# Altium schematic symbol library ANT_Miner_CtrlBoard_V1.1.SCHLIB: 22 symbols
Pins are listed as number, name and electrical type; pins without a type are passive.

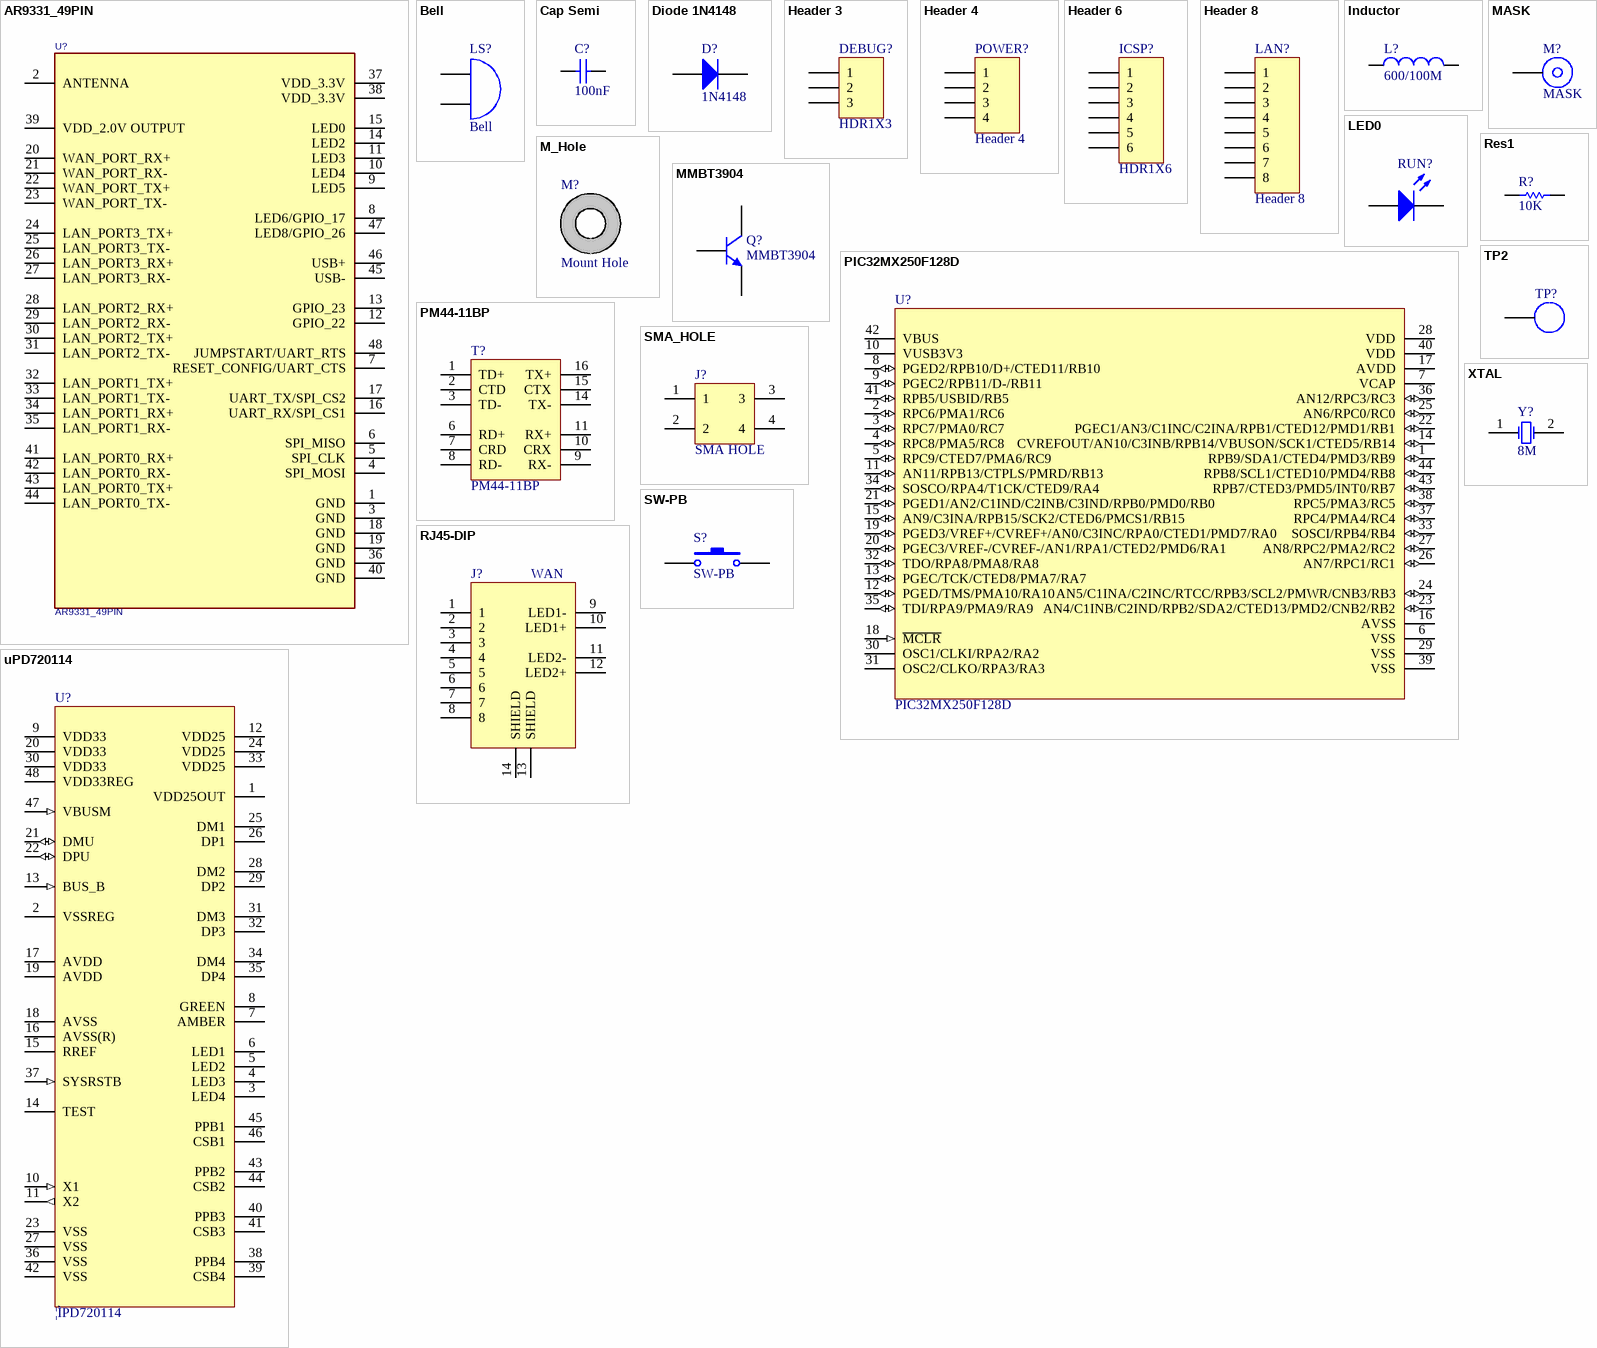
[diagram p0: symbols AR9331_49PIN to XTAL]

## AR9331_49PIN
designator U?
footprint AR9331_49PIN (AR9331 49PIN)
pins: 1 GND, 2 ANTENNA, 3 GND, 4 SPI_MOSI, 5 SPI_CLK, 6 SPI_MISO, 7 RESET_CONFIG/UART_CTS, 8 LED6/GPIO_17, 9 LED5, 10 LED4, 11 LED3, 12 GPIO_22, 13 GPIO_23, 14 LED2, 15 LED0, 16 UART_RX/SPI_CS1, 17 UART_TX/SPI_CS2, 18 GND, 19 GND, 20 WAN_PORT_RX+, 21 WAN_PORT_RX-, 22 WAN_PORT_TX+, 23 WAN_PORT_TX-, 24 LAN_PORT3_TX+, 25 LAN_PORT3_TX-, 26 LAN_PORT3_RX+, 27 LAN_PORT3_RX-, 28 LAN_PORT2_RX+, 29 LAN_PORT2_RX-, 30 LAN_PORT2_TX+, 31 LAN_PORT2_TX-, 32 LAN_PORT1_TX+, 33 LAN_PORT1_TX-, 34 LAN_PORT1_RX+, 35 LAN_PORT1_RX-, 36 GND, 37 VDD_3.3V, 38 VDD_3.3V, 39 VDD_2.0V OUTPUT, 40 GND, 41 LAN_PORT0_RX+, 42 LAN_PORT0_RX-, 43 LAN_PORT0_TX+, 44 LAN_PORT0_TX-, 45 USB-, 46 USB+, 47 LED8/GPIO_26, 48 JUMPSTART/UART_RTS
2 alternate drawings of the same symbol

## Bell
designator LS?
Electrical Bell; Published: 24-Mar-1999; LatestRevisionDate: 17-Jul-2002; LatestRevisionNote: Re-released for DXP Platform.; PackageReference: PIN2; Publisher: Altium Limited
footprint YR5025A
pins: 1 A, 2 B

## Cap Semi
designator C?, comment 100nF
Capacitor (Semiconductor SIM Model); Published: 8-Jun-2000; LatestRevisionDate: 29-May-2009; LatestRevisionNote: IPC-7351 Footprint Added.; PackageReference: C1206; Publisher: Altium Limited; PackageDescription: Chip Capacitor; Value: 100nF
footprint CC0603(1608) (Chip Capacitor, Body 1.6x0.8mm, IPC High Density)
pins: 1, 2

## Diode 1N4148
designator D?, comment 1N4148
High Conductance Fast Diode; Published: 8-Jun-2000; LatestRevisionDate: 17-Jul-2002; LatestRevisionNote: Re-released for DXP Platform.; DatasheetVersion: 1997; PackageReference: DO-35; Publisher: Altium Limited; PackageDescription: Diode, Axial; Body 3.8 x 1.9 mm (LxDia. max), Lead Dia. 0.53 mm (max); Code_JEDEC: DO-204-AH; ComponentLink1Description: Manufacturer Link; ComponentLink1URL: http://www.fairchildsemi.com/; ComponentLink2Description: Datasheet; ComponentLink2URL: http://www.fairchildsemi.com/ds/1N%2F1N4148.pdf
signal-integrity model 1N4148
footprint DIODE0805
pins: 1 A, 2 K

## Header 3
designator DEBUG?, comment HDR1X3
Header, 3-Pin; LatestRevisionDate: 17-Jul-2002; LatestRevisionNote: Re-released for DXP Platform.; Publisher: Altium Limited
signal-integrity model Connector
footprint HDR1X3 (Connector; Header; 3 Position)
pins: 1, 2, 3

## Header 4
designator POWER?
Header, 4-Pin; LatestRevisionDate: 17-Jul-2002; LatestRevisionNote: Re-released for DXP Platform.; Publisher: Altium Limited
signal-integrity model Connector
footprint 4PIN_180
pins: 1, 2, 3, 4

## Header 6
designator ICSP?, comment HDR1X6
Header, 6-Pin; LatestRevisionDate: 17-Jul-2002; LatestRevisionNote: Re-released for DXP Platform.; Publisher: Altium Limited
signal-integrity model Connector
footprint HDR1X6 (Connector; Header; 6 Position)
pins: 1, 2, 3, 4, 5, 6

## Header 8
designator LAN?
Header, 8-Pin; LatestRevisionDate: 17-Jul-2002; LatestRevisionNote: Re-released for DXP Platform.; Publisher: Altium Limited
signal-integrity model Connector
footprint 8PIN_180
pins: 1, 2, 3, 4, 5, 6, 7, 8

## Inductor
designator L?, comment 600/100M
Inductor; Code_IEC: 1005; Published: 8-Jun-2000; LatestRevisionDate: 29-May-2009; LatestRevisionNote: IPC-7351 Footprint Added.; PackageReference: 0402-A; Publisher: Altium Limited; PackageDescription: Chip Inductor; Code_JEITA: 0402; Value: 600/100M
simulation model INDUCTOR (Inductor)
signal-integrity model Inductor
footprint INDC1608L (Chip Inductor, Body 1.6x0.8mm, IPC High Density)
pins: 1, 2

## LED0
designator RUN?, comment Green  (value not drawn)
Typical INFRARED GaAs LED; Published: 8-Jun-2000; LatestRevisionDate: 08-Jul-2005; LatestRevisionNote: Mech Layer 1 removed.; PackageReference: LED-0; Publisher: Altium Limited; PackageDescription: LED; 2 Leads; value: Green
simulation model LED0 (Diode)
footprint LED0603(1608) (Chip LED, Body 1.6x0.8mm, IPC High Density)
pins: 1 A, 2 K

## M_Hole
designator M?, comment Mount Hole
footprint HOLE_3.2
pins: 0 PIN (power)

## MASK
designator M?
footprint MASK (SMD MASK 1mm)
pins: 1

## MMBT3904
designator Q?
NPN Switching Transistor; Published: 17-Sep-2003; LatestRevisionDate: 12-Dec-2006; LatestRevisionNote: IPC-7351 Footprint Added.; DatasheetVersion: 13-May-2002; PackageVersion: May-1999; PackageReference: SOT23; Publisher: Altium Limited; PackageDescription: 3-Pin SOT-23 Package 0.95 mm Pitch, 2.3 mm Lead Span; ComponentLink1Description: Manufacturer Link; ComponentLink1URL: http://www.semiconductors.philips.com/; ComponentLink2Description: Datasheet; ComponentLink2URL: http://www.semiconductors.philips.com/acrobat/datasheets/MMBT3904_4.pdf
simulation model QMMBT3904 (NPN)
footprint SOT23_L (SOT23, 3-Leads, Body 2.9x1.3mm, Pitch 0.95mm, Lead Span 2.3mm - Reverse Pinning, IPC High Density)
pins: 1 B, 2 E, 3 C

## PIC32MX250F128D
designator U?
footprint TQFP44_L (Thin QFP, 44-Leads, Body 10x10mm, Pitch 0.8mm, IPC High Density)
pins: 1 RPB9/SDA1/CTED4/PMD3/RB9 (io), 2 RPC6/PMA1/RC6 (io), 3 RPC7/PMA0/RC7 (io), 4 RPC8/PMA5/RC8 (io), 5 RPC9/CTED7/PMA6/RC9 (io), 6 VSS (power), 7 VCAP (power), 8 PGED2/RPB10/D+/CTED11/RB10 (io), 9 PGEC2/RPB11/D-/RB11 (io), 10 VUSB3V3 (power), 11 AN11/RPB13/CTPLS/PMRD/RB13 (io), 12 PGED/TMS/PMA10/RA10 (io), 13 PGEC/TCK/CTED8/PMA7/RA7 (io), 14 CVREFOUT/AN10/C3INB/RPB14/VBUSON/SCK1/CTED5/RB14 (io), 15 AN9/C3INA/RPB15/SCK2/CTED6/PMCS1/RB15 (io), 16 AVSS (power), 17 AVDD (power), 18 ~{MCLR} (in), 19 PGED3/VREF+/CVREF+/AN0/C3INC/RPA0/CTED1/PMD7/RA0 (io), 20 PGEC3/VREF-/CVREF-/AN1/RPA1/CTED2/PMD6/RA1 (io), 21 PGED1/AN2/C1IND/C2INB/C3IND/RPB0/PMD0/RB0 (io), 22 PGEC1/AN3/C1INC/C2INA/RPB1/CTED12/PMD1/RB1 (io), 23 AN4/C1INB/C2IND/RPB2/SDA2/CTED13/PMD2/CNB2/RB2 (io), 24 AN5/C1INA/C2INC/RTCC/RPB3/SCL2/PMWR/CNB3/RB3 (io), 25 AN6/RPC0/RC0 (io), 26 AN7/RPC1/RC1 (io), 27 AN8/RPC2/PMA2/RC2 (io), 28 VDD (power), 29 VSS (power), 30 OSC1/CLKI/RPA2/RA2, 31 OSC2/CLKO/RPA3/RA3, 32 TDO/RPA8/PMA8/RA8 (io), 33 SOSCI/RPB4/RB4 (io), 34 SOSCO/RPA4/T1CK/CTED9/RA4 (io), 35 TDI/RPA9/PMA9/RA9 (io), 36 AN12/RPC3/RC3 (io), 37 RPC4/PMA4/RC4 (io), 38 RPC5/PMA3/RC5 (io), 39 VSS (power), 40 VDD (power), 41 RPB5/USBID/RB5 (io), 42 VBUS (power), 43 RPB7/CTED3/PMD5/INT0/RB7 (io), 44 RPB8/SCL1/CTED10/PMD4/RB8 (io)

## PM44-11BP
designator T?
footprint PM44-11BP
pins: 1 TD+, 2 CTD, 3 TD-, 6 RD+, 7 CRD, 8 RD-, 9 RX-, 10 CRX, 11 RX+, 14 TX-, 15 CTX, 16 TX+

## Res1
designator R?, comment 10K
Resistor; Value: 10K
footprint RR0603(1608) (Chip Resistor, Body 1.6x0.8mm, IPC High Density)
pins: 1, 2

## RJ45-DIP
designator J?, comment WAN
RJ45,DUAL LED,DIP
footprint RJ45_2LED_DIP
pins: 1, 2, 3, 4, 5, 6, 7, 8, 9 LED1-, 10 LED1+, 11 LED2-, 12 LED2+, 13 SHIELD, 14 SHIELD

## SMA_HOLE
designator J?, comment SMA HOLE
SMA Socket Assembly Hole.
footprint SMA_HOLE (SMA Socket Assembly Hole.)
pins: 1, 2, 3, 4

## SW-PB
designator S?
Switch; Published: 24-Mar-1999; LatestRevisionDate: 17-Jul-2002; LatestRevisionNote: Re-released for DXP Platform.; PackageReference: SPST-2; Publisher: Altium Limited; PackageDescription: Switch; 2 Leads
footprint SWITCH_3x4
pins: 1, 2

## TP2
designator TP?, comment TP  (value not drawn)
footprint TP2 (Test Point 2mm SMD)
pins: 1

## uPD720114
designator U?, comment ¦ÌPD720114
footprint TQFP48_L
pins: 1 VDD25OUT (power), 2 VSSREG (power), 3 LED4, 4 LED3, 5 LED2, 6 LED1, 7 AMBER, 8 GREEN, 9 VDD33 (power), 10 X1 (in), 11 X2 (out), 12 VDD25 (power), 13 BUS_B (in), 14 TEST, 15 RREF, 16 AVSS(R) (power), 17 AVDD (power), 18 AVSS (power), 19 AVDD (power), 20 VDD33 (power), 21 DMU (io), 22 DPU (io), 23 VSS (power), 24 VDD25 (power), 25 DM1, 26 DP1, 27 VSS (power), 28 DM2, 29 DP2, 30 VDD33 (power), 31 DM3, 32 DP3, 33 VDD25 (power), 34 DM4, 35 DP4, 36 VSS (power), 37 SYSRSTB (in), 38 PPB4, 39 CSB4, 40 PPB3, 41 CSB3, 42 VSS (power), 43 PPB2, 44 CSB2, 45 PPB1, 46 CSB1, 47 VBUSM (in), 48 VDD33REG (power)

## XTAL
designator Y?, comment 8M
Crystal Oscillator; Published: 8-Jun-2000; LatestRevisionDate: 17-Jul-2002; LatestRevisionNote: Re-released for DXP Platform.; PackageReference: R38; Publisher: Altium Limited; PackageDescription: Crystal, Thru-Hole; 2 Leads; Body 3.1 x 8.2 mm (Dia.xH)
simulation model XTAL (Spice Subcircuit)
footprint 4SMX
pins: 1 OSC1, 2 OSC2